# Altium schematic symbol library audio_sch_lib.SchLib: 13 symbols
Pins are listed as number, name and electrical type; pins without a type are passive.

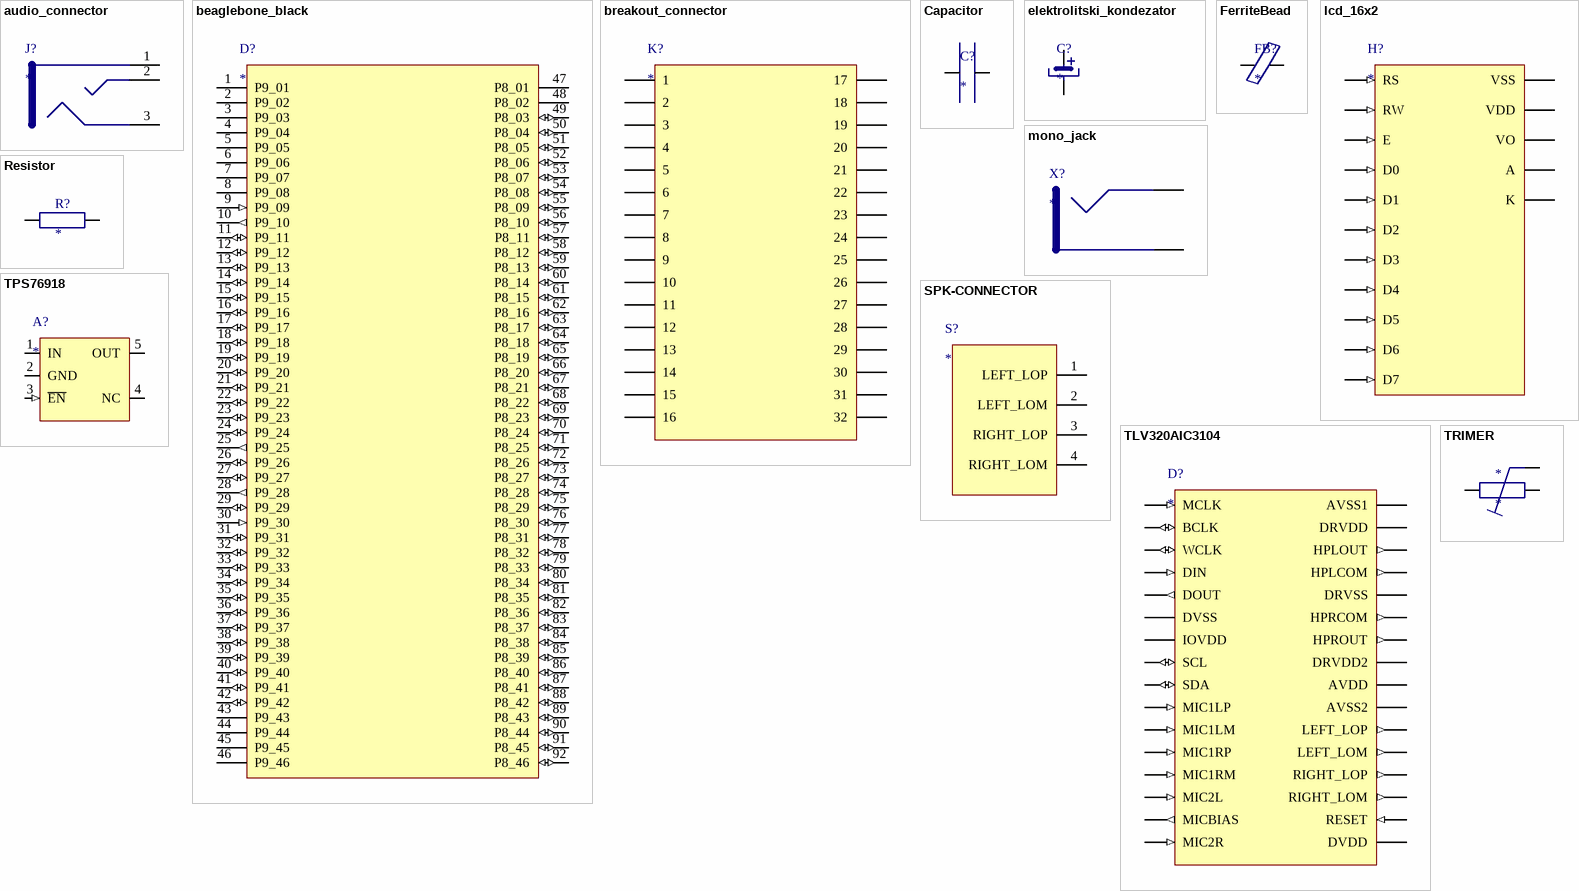
[diagram p0: symbols audio_connector to TRIMER]

## audio_connector
designator J?
footprint AUDIO-CONNECTOR
pins: 1 GND, 2 RIGHT, 3 LEFT

## beaglebone_black
designator D?
footprint BBB_Cape
pins: 1 P9_01 (power) "DGND", 2 P9_02 (power) "DGND", 3 P9_03 (power) "3V3", 4 P9_04 (power) "3V3", 5 P9_05 (power) "VDD_5V", 6 P9_06 (power) "VDD_5V", 7 P9_07 (power) "SYS_5V", 8 P9_08 (power) "SYS_5V", 9 P9_09 (in), 10 P9_10 (out) "SYS_RESET", 11 P9_11 (io), 12 P9_12 (io), 13 P9_13 (io), 14 P9_14 (io), 15 P9_15 (io), 16 P9_16 (io), 17 P9_17 (io), 18 P9_18 (io), 19 P9_19 (io) "I2C2_SCL", 20 P9_20 (io) "I2C2_SDA", 21 P9_21 (io), 22 P9_22 (io), 23 P9_23 (io), 24 P9_24 (io), 25 P9_25 (out) "AUD_MCLK", 26 P9_26 (io), 27 P9_27 (io), 28 P9_28 (out) "I2S_DOUT", 29 P9_29 (io) "I2S_WCLK", 30 P9_30 (in) "I2S_DIN", 31 P9_31 (io) "I2S_BCLK", 32 P9_32 (io), 33 P9_33 (io), 34 P9_34 (io), 35 P9_35 (io), 36 P9_36 (io), 37 P9_37 (io), 38 P9_38 (io), 39 P9_39 (io), 40 P9_40 (io), 41 P9_41 (io), 42 P9_42 (io), 43 P9_43 (power) "DGND", 44 P9_44 (power) "DGND", 45 P9_45 (power) "DGND", 46 P9_46 (power) "DGND", 47 P8_01 (power) "DGND", 48 P8_02 (power) "DGND", 49 P8_03 (io), 50 P8_04 (io), 51 P8_05 (io), 52 P8_06 (io), 53 P8_07 (io), 54 P8_08 (io), 55 P8_09 (io), 56 P8_10 (io), 57 P8_11 (io), 58 P8_12 (io), 59 P8_13 (io), 60 P8_14 (io), 61 P8_15 (io), 62 P8_16 (io), 63 P8_17 (io), 64 P8_18 (io), 65 P8_19 (io), 66 P8_20 (io), 67 P8_21 (io), 68 P8_22 (io), 69 P8_23 (io), 70 P8_24 (io), 71 P8_25 (io), 72 P8_26 (io), 73 P8_27 (io), 74 P8_28 (io), 75 P8_29 (io), 76 P8_30 (io), 77 P8_31 (io), 78 P8_32 (io), 79 P8_33 (io), 80 P8_34 (io), 81 P8_35 (io), 82 P8_36 (io), 83 P8_37 (io), 84 P8_38 (io), 85 P8_39 (io), 86 P8_40 (io), 87 P8_41 (io), 88 P8_42 (io), 89 P8_43 (io), 90 P8_44 (io), 91 P8_45 (io), 92 P8_46 (io)

## breakout_connector
designator K?
pins: 1, 2, 3, 4, 5, 6, 7, 8, 9, 10, 11, 12, 13, 14, 15, 16, 17, 18, 19, 20, 21, 22, 23, 24, 25, 26, 27, 28, 29, 30, 31, 32

## Capacitor
designator C?
pins: 1, 2

## elektrolitski_kondezator
designator C?
pins: 1, 2

## FerriteBead
designator FB?
pins: 1 (power), 2 (power)

## lcd_16x2
designator H?
pins: 1 VSS (power), 2 VDD (power), 3 VO (power), 4 RS (in), 5 RW (in), 6 E (in), 7 D0 (in), 8 D1 (in), 9 D2 (in), 10 D3 (in), 11 D4 (in), 12 D5 (in), 13 D6 (in), 14 D7 (in), 15 A (power), 16 K (power)

## mono_jack
designator X?
pins: 1 GND, 2

## Resistor
designator R?
pins: 1, 2

## SPK-CONNECTOR
designator S?
footprint SPK-CONNECTOR
pins: 1 LEFT_LOP, 2 LEFT_LOM, 3 RIGHT_LOP, 4 RIGHT_LOM

## TLV320AIC3104
designator D?
footprint QUAD32-RHB
footprint QUAD32-RHB
pins: 1 MCLK (in), 2 BCLK (io), 3 WCLK (io), 4 DIN (in), 5 DOUT (out), 6 DVSS (power), 7 IOVDD (power), 8 SCL (io), 9 SDA (io), 10 MIC1LP (in), 11 MIC1LM (in), 12 MIC1RP (in), 13 MIC1RM (in), 14 MIC2L (in), 15 MICBIAS (out), 16 MIC2R (in), 17 AVSS1 (power), 18 DRVDD (power), 19 HPLOUT (out), 20 HPLCOM (out), 21 DRVSS (power), 22 HPRCOM (out), 23 HPROUT (out), 24 DRVDD2 (power), 25 AVDD (power), 26 AVSS2 (power), 27 LEFT_LOP (out), 28 LEFT_LOM (out), 29 RIGHT_LOP (out), 30 RIGHT_LOM (out), 31 RESET (in), 32 DVDD (power), 33 THERMAL_PAD (in) hidden to AGND

## TPS76918
designator A?
footprint DBV005 (SOT-23/SC-74A; 5 Leads; Body 3 x 3 mm, inc. leads (LxW max))
footprint DBV005
pins: 1 IN (power), 2 GND (power), 3 ~{EN} (in), 4 NC (power), 5 OUT (power)

## TRIMER
designator *
pins: 1, 2, 3